# EAGLE library part 634108185521 (library 615008185221_Eagle_WR-MJ_rev20b)
Modular Jack SMT Horizontal Plastic 8P8C Tab Down WR-MJ KIND PROPERTIES: Quality Class 750 Mating cycles MATERIAL PROPERTIES: Insulator Material PA9T Insulator Flammability Rating UL94 V-0 Insulator Color Black Contact Material Copper Alloy Contact Plating Selective Gold Contact Type Stamped GENERAL PROPERTIES: Operating Temperature -40 °C up to +85 °C Compliance Lead free / RoHS ELECTRICAL PROPERTIES: Rated Current [1] 1.5 A Withstanding Voltage 1000 V (AC) Contact Resistance 35 mΩ Insulation Resistance 1000 MΩ STANDARD: UL Approval E324776 PACKAGING PROPERTIES: Packaging Tape and Reel & Mylar Packaging Unit (Qty.) 120 mm <http://katalog.we-online.de/media/images/v2/Family_WR-MJ_634108185521.jpg> Details see: http://katalog.we-online.de/em/datasheet/634108185521.pdf Updated byYingchun,Shan ,2020-01-03 2020(C) Würth Elektronik
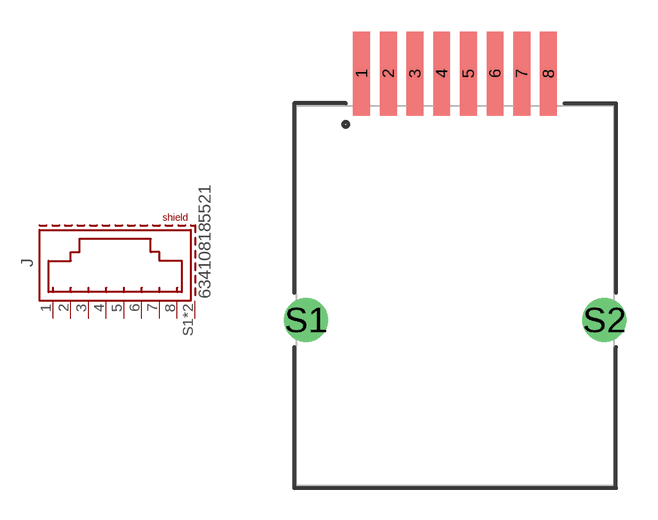
[diagram p47: symbol with the pads of 634108185521; footprint 634108185521]

Designator prefix J

## 634108185521 (DATASHEET-URL: https://www.we-online.com/catalog/datasheet/634108185521.pdf; MOUNT: SMT; PART-NUMBER: 634108185521; TYPE: Horizontal; VALUE: 634108185521; XPXC: 8P8C)  [634108185521]
1  8  pas
2  7  pas
3  6  pas
4  5  pas
5  4  pas
6  3  pas
7  2  pas
8  1  pas
S1  SHIELD  pas
S2  SHIELD  pas

## Footprint 634108185521 (pad centres in mm)
WR-MJ Modular Jack SMT Horizontal Plastic 8P8C Tab Down
smd 0.8 x 4: 1 -4.445,10.57; 2 -3.175,10.57; 3 -1.905,10.57; 4 -0.635,10.57; 5 0.635,10.57; 6 1.905,10.57; 7 3.175,10.57; 8 4.445,10.57
drill 1.4: S1 -7.095,-1.15; S2 7.095,-1.15